# EAGLE library part MICROSD10 (library skeezix)
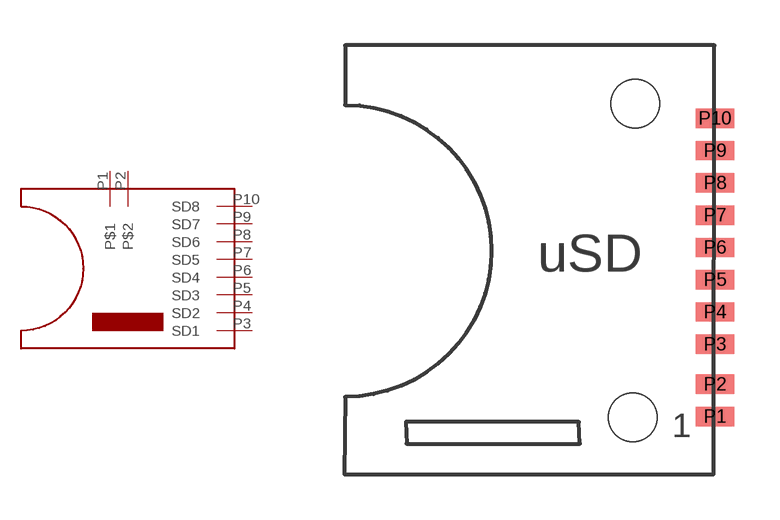
[diagram p26: symbol with the pads of MICROSD10; footprint MICROSD10]

Designator prefix -

## MICROSD10  [MICROSD10]
P1  P$1
P2  P$2
P3  SD1
P4  SD2
P5  SD3
P6  SD4
P7  SD5
P8  SD6
P9  SD7
P10  SD8

## Footprint MICROSD10 (pad centres in mm)
smd 1.27 x 0.635: P1 12.217,1.575; P2 12.217,2.642; P3 12.217,3.962; P4 12.217,5.029; P5 12.217,6.096; P6 12.217,7.163; P7 12.217,8.23; P8 12.217,9.296; P9 12.217,10.363; P10 12.217,11.43
hole 1.6 at 9.5,1.549
hole 1.6 at 9.576,11.913